# Altium footprint library STM32WL_FE.PcbLib: 12 footprints
Each footprint in its own frame and in the unit in brackets; x right, y up, seen from the top. Pads: shape width x height; smd on the part's side, far side on the other; paste and mask are expansions set on the pad; w line width, h text height; cw(c..) or ccw(c..) is an arc to the next point about the centre after c.
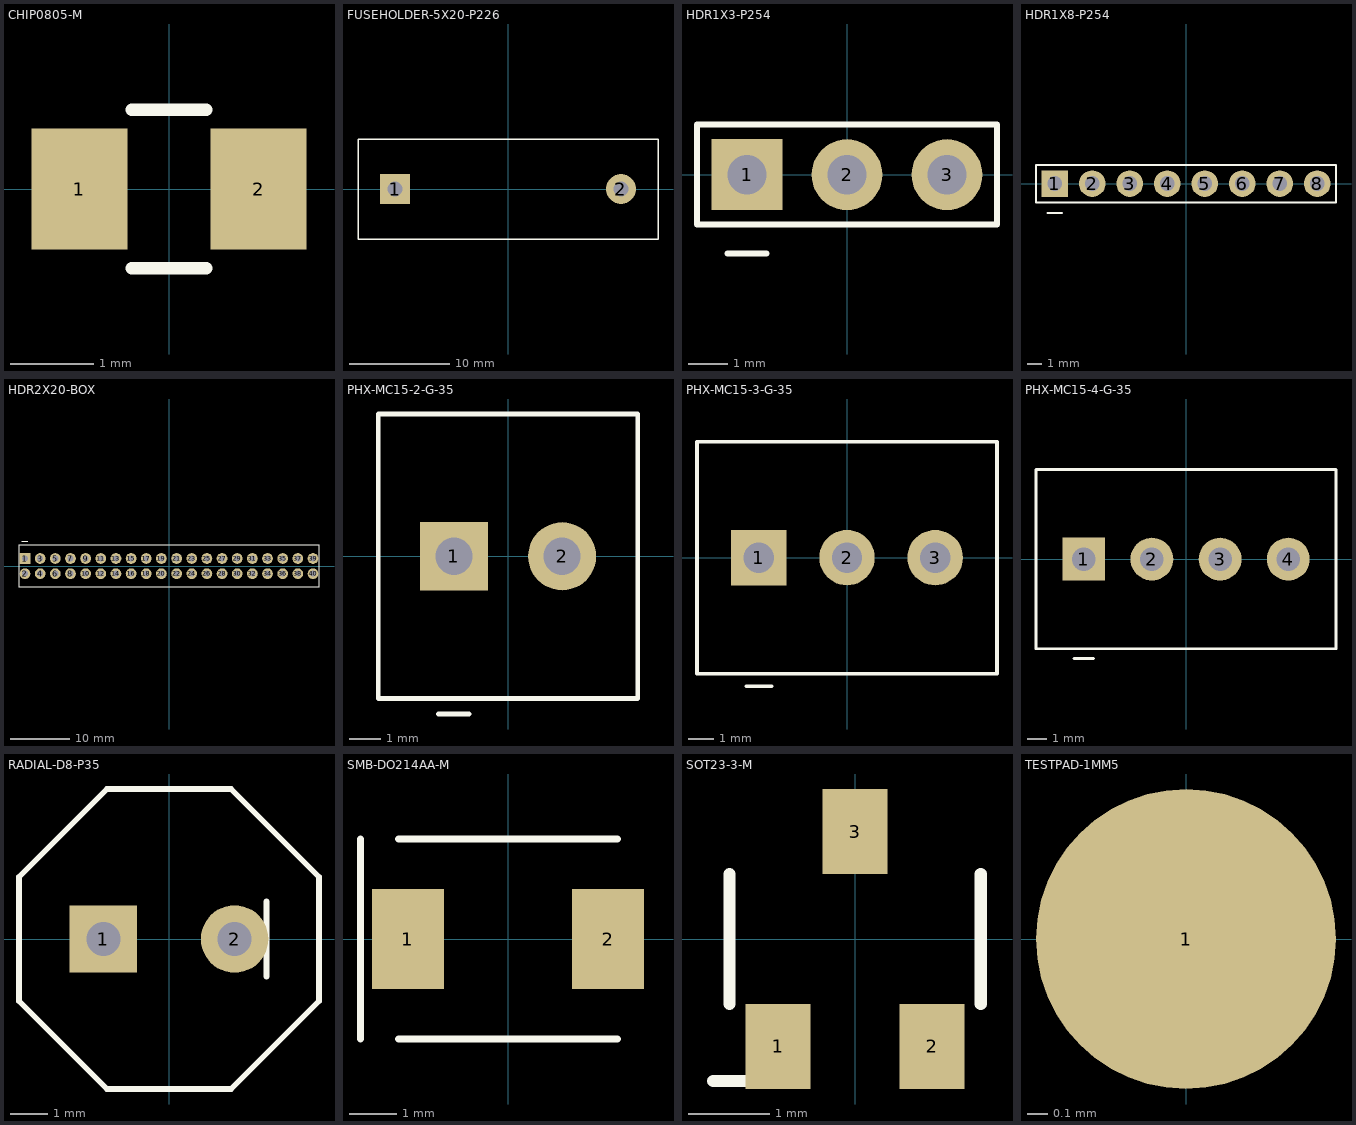
[diagram p0: the footprints below, top view; thin cyan lines are the x and y axes]

## CHIP0805-M [mm] "0805 chip R/C, hand-solder land (Vishay 28950 IPC-7351 + 0.25 mm)"
pads (2):
  rect 1.15x1.45 smd: 1(-1.075,0) 2(1.075,0)
Top Overlay:
  lines w0.15: -0.45,-0.95 0.45,-0.95 ; -0.45,0.95 0.45,0.95

## FUSEHOLDER-5X20-P226 [mm] "Fuse holder, 5x20 mm cartridge, covered, 22.6 mm pitch. Holes oversized on purpose; body outline provisional"
pads (2):
  rect 3x3 hole 1.5: 1(-11.3,0)
  round 3 hole 1.5: 2(11.3,0)
Top Overlay:
  lines w0.15: -15,-5 15,-5 15,5 -15,5 -15,-5

## HDR1X3-P254 [mm] "Pin header 1x3, 2.54 mm. J13 debug UART"
pads (3):
  rect 1.8x1.8 hole 1: 1(-2.54,0)
  round 1.8 hole 1: 2(0,0) 3(2.54,0)
Top Overlay:
  lines w0.15: -3.04,-2 -2.04,-2 ; -3.81,-1.27 3.81,-1.27 3.81,1.27 -3.81,1.27 -3.81,-1.27

## HDR1X8-P254 [mm] "Pin header 1x8, 2.54 mm. CN6 power tap - clip CN6-1 and plug hole 1 (section 1)"
pads (8):
  rect 1.8x1.8 hole 1: 1(-8.89,0)
  round 1.8 hole 1: 2(-6.35,0) 3(-3.81,0) 4(-1.27,0) 5(1.27,0) 6(3.81,0) 7(6.35,0) 8(8.89,0)
Top Overlay:
  lines w0.15: -9.39,-2 -8.39,-2 ; -10.16,-1.27 10.16,-1.27 10.16,1.27 -10.16,1.27 -10.16,-1.27

## HDR2X20-BOX [mm] "Box header 2x20, 2.54 mm, shrouded. Pins 39/40 unconnected. Shroud outline provisional"
pads (40):
  rect 1.8x1.8 hole 1: 1(-24.13,1.27)
  round 1.8 hole 1: 2(-24.13,-1.27) 3(-21.59,1.27) 4(-21.59,-1.27) 5(-19.05,1.27) 6(-19.05,-1.27) 7(-16.51,1.27) 8(-16.51,-1.27) 9(-13.97,1.27) 10(-13.97,-1.27) 11(-11.43,1.27) 12(-11.43,-1.27) 13(-8.89,1.27) 14(-8.89,-1.27) 15(-6.35,1.27) 16(-6.35,-1.27) 17(-3.81,1.27) 18(-3.81,-1.27) 19(-1.27,1.27) 20(-1.27,-1.27) 21(1.27,1.27) 22(1.27,-1.27) 23(3.81,1.27) 24(3.81,-1.27) 25(6.35,1.27) 26(6.35,-1.27) 27(8.89,1.27) 28(8.89,-1.27) 29(11.43,1.27) 30(11.43,-1.27) 31(13.97,1.27) 32(13.97,-1.27) 33(16.51,1.27) 34(16.51,-1.27) 35(19.05,1.27) 36(19.05,-1.27) 37(21.59,1.27) 38(21.59,-1.27) 39(24.13,1.27) 40(24.13,-1.27)
Top Overlay:
  lines w0.15: -24.63,4.2 -23.63,4.2 ; -25.13,-3.5 25.13,-3.5 25.13,3.5 -25.13,3.5 -25.13,-3.5

## PHX-MC15-2-G-35 [mm] "Phoenix MC 1,5/n-G-3,5 header, 3.5 mm pitch, 1.2 mm holes (datasheet 1844223); 2.2 mm pads chosen"
pads (2):
  rect 2.2x2.2 hole 1.2: 1(-1.75,0)
  round 2.2 hole 1.2: 2(1.75,0)
Top Overlay:
  lines w0.15: -2.25,-5.1 -1.25,-5.1 ; -4.2,-4.6 4.2,-4.6 4.2,4.6 -4.2,4.6 -4.2,-4.6

## PHX-MC15-3-G-35 [mm] "Phoenix MC 1,5/n-G-3,5 header, 3.5 mm pitch, 1.2 mm holes (datasheet 1844223); 2.2 mm pads chosen"
pads (3):
  rect 2.2x2.2 hole 1.2: 1(-3.5,0)
  round 2.2 hole 1.2: 2(0,0) 3(3.5,0)
Top Overlay:
  lines w0.15: -4,-5.1 -3,-5.1 ; -5.95,-4.6 5.95,-4.6 5.95,4.6 -5.95,4.6 -5.95,-4.6

## PHX-MC15-4-G-35 [mm] "Phoenix MC 1,5/n-G-3,5 header, 3.5 mm pitch, 1.2 mm holes (datasheet 1844223); 2.2 mm pads chosen"
pads (4):
  rect 2.2x2.2 hole 1.2: 1(-5.25,0)
  round 2.2 hole 1.2: 2(-1.75,0) 3(1.75,0) 4(5.25,0)
Top Overlay:
  lines w0.15: -5.75,-5.1 -4.75,-5.1 ; -7.7,-4.6 7.7,-4.6 7.7,4.6 -7.7,4.6 -7.7,-4.6

## RADIAL-D8-P35 [mm] "Radial electrolytic, 8 mm can, 3.5 mm lead pitch (Nichicon UVR1J101MPD). Pad 1 = +"
pads (2):
  rect 1.8x1.8 hole 0.9: 1(-1.75,0)
  round 1.8 hole 0.9: 2(1.75,0)
Top Overlay:
  lines w0.15: 2.6,-1 2.6,1 ; -4,-1.657 -1.657,-4 1.657,-4 4,-1.657 4,1.657 1.657,4 -1.657,4 -4,1.657 -4,-1.657

## SMB-DO214AA-M [mm] "SMB/DO-214AA hand-solder land (Bourns SMBJ recommended + 0.25 mm). Pad 1 = cathode"
pads (2):
  rect 1.52x2.1 smd: 1(-2.105,0) 2(2.105,0)
Top Overlay:
  lines w0.15: -3.1,-2.1 -3.1,2.1 ; -2.3,-2.1 2.3,-2.1 ; -2.3,2.1 2.3,2.1

## SOT23-3-M [mm] "SOT-23, hand-solder land (AOS PO-00001 rev N + 0.25 mm)"
pads (3):
  rect 0.8x1.05 smd: 1(-0.95,-1.325) 2(0.95,-1.325) 3(0,1.325)
Top Overlay:
  lines w0.15: -1.75,-1.75 -1.35,-1.75 ; -1.55,-0.8 -1.55,0.8 ; 1.55,-0.8 1.55,0.8

## TESTPAD-1MM5 [mm] "Test point, 1.5 mm round SMD pad (size chosen)"
pads (1):
  round 1.5 smd: 1(0,0)